# Altium integrated library OV-0100-C7-100.000KHZ-20PPM-TA-QC.IntLib: 1 symbol
Pins are listed as number, name and electrical type; pins without a type are passive.

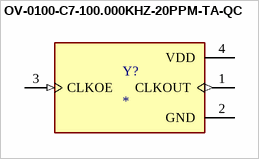
[diagram p0: symbol OV-0100-C7-100.000KHZ-20PPM-TA-QC]

## OV-0100-C7-100.000KHZ-20PPM-TA-QC
designator Y?
OV-0100-C7 Low Power Clock Oscillator 100.000 kHz; MP: OV-0100-C7-100.000KHZ-20PPM-TA-QC; Availability: Unavailable; Package: None; Price: None; Value: *
footprint OSC_OV-0100-C7-100.000KHZ-20PPM-TA-QC
pins: 1 CLKOUT (out), 2 GND (power), 3 CLKOE (in), 4 VDD (power)